# EAGLE library part MSP430G2452IPW20R (library Microcontroller)
IC MCU 16BIT 8KB FLASH 20TSSOP Manufacturer's datasheet <https://www.ti.com/lit/ds/symlink/msp430g2112.pdf?HQS=dis-dk-null-digikeymode-dsf-pf-null-wwe&ts=1626333961610&ref_url=https%253A%252F%252Fwww.digikey.in%252F>
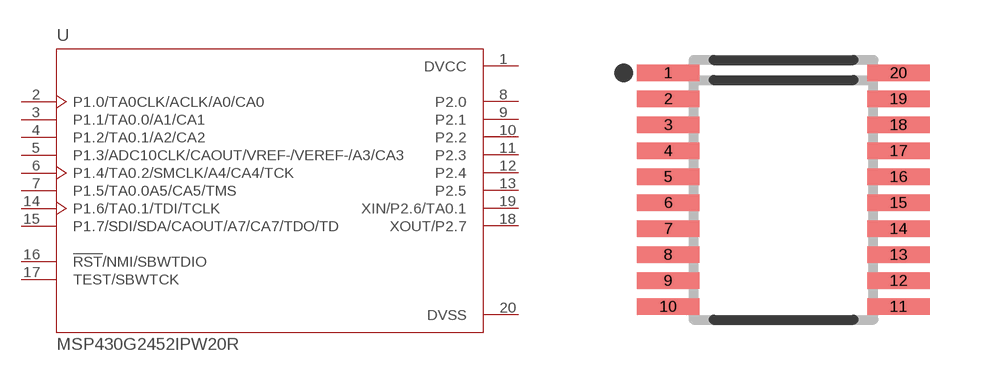
[diagram p32: symbol with the pads of TSSOP-20; footprint TSSOP-20]

Designator prefix U

## MSP430G2452IPW20R (CREATED_BY: PCBLayout.com; DIGIKEY_PARTNO: 296-28127-6-ND; MANUFACTURER: Texas Instruments; MPN: MSP430G2452IPW20R; PACKAGE: TSSOP-20)  [TSSOP-20]
1  DVCC  pwr
2  P1.0/TA0CLK/ACLK/A0/CA0
3  P1.1/TA0.0/A1/CA1
4  P1.2/TA0.1/A2/CA2
5  P1.3/ADC10CLK/CAOUT/VREF-/VEREF-/A3/CA3
6  P1.4/TA0.2/SMCLK/A4/CA4/TCK
7  P1.5/TA0.0A5/CA5/TMS
8  P2.0
9  P2.1
10  P2.2
11  P2.3
12  P2.4
13  P2.5
14  P1.6/TA0.1/TDI/TCLK
15  P1.7/SDI/SDA/CAOUT/A7/CA7/TDO/TD
16  !RST!/NMI/SBWTDIO
17  TEST/SBWTCK
18  XOUT/P2.7
19  XIN/P2.6/TA0.1
20  DVSS  pwr

## Footprint TSSOP-20 (pad centres in mm)
smd 1.56 x 0.41: 1 -2.88,2.925; 2 -2.88,2.275; 3 -2.88,1.625; 4 -2.88,0.975; 5 -2.88,0.325; 6 -2.88,-0.325; 7 -2.88,-0.975; 8 -2.88,-1.625; 9 -2.88,-2.275; 10 -2.88,-2.925; 11 2.88,-2.925; 12 2.88,-2.275; 13 2.88,-1.625; 14 2.88,-0.975; 15 2.88,-0.325; 16 2.88,0.325; 17 2.88,0.975; 18 2.88,1.625; 19 2.88,2.275; 20 2.88,2.925